# EAGLE library part CONN_USB_3.0_20P (library GPLIB_CONN)
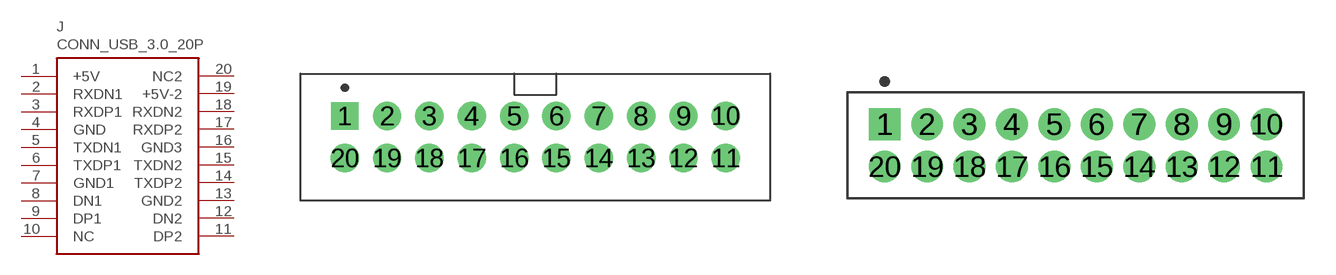
[diagram p56: symbol with the pads of CONN_20P_USB_2.54MMP_ST_DUAL_ROW; footprints CONN_20P_USB_2.54MMP_ST_DUAL_ROW, CONN_20P_USB_2.00MMP_ST_DUAL_ROW]

Designator prefix J

## CONN_USB_3.0_20P_ST_FEMALE  [CONN_20P_USB_2.54MMP_ST_DUAL_ROW]
1  +5V  pwr
2  RXDN1
3  RXDP1
4  GND  pwr
5  TXDN1
6  TXDP1
7  GND1  pwr
8  DN1
9  DP1
10  NC  nc
11  DP2
12  DN2
13  GND2  pwr
14  TXDP2
15  TXDN2
16  GND3  pwr
17  RXDP2
18  RXDN2
19  +5V-2  pwr
20  NC2  nc

## CONN_USB_3.0_20P_ST_2.00MMP_FEMALE  [CONN_20P_USB_2.00MMP_ST_DUAL_ROW]
Pads as for CONN_20P_USB_2.54MMP_ST_DUAL_ROW

## Footprint CONN_20P_USB_2.54MMP_ST_DUAL_ROW (pad centres in mm)
Double-row, 20-pin Receptacle Header (Female) Straight, 2.54 mm (0.10 in) row pitch, 2.54 mm (0.10 in) col pitch
drill 1.105 square: 1 -11.43,1.27
drill 1.105 pad 1.705: 2 -8.89,1.27; 3 -6.35,1.27; 4 -3.81,1.27; 5 -1.27,1.27; 6 1.27,1.27; 7 3.81,1.27; 8 6.35,1.27; 9 8.89,1.27; 10 11.43,1.27; 11 11.43,-1.27; 12 8.89,-1.27; 13 6.35,-1.27; 14 3.81,-1.27; 15 1.27,-1.27; 16 -1.27,-1.27; 17 -3.81,-1.27; 18 -6.35,-1.27; 19 -8.89,-1.27; 20 -11.43,-1.27

## Footprint CONN_20P_USB_2.00MMP_ST_DUAL_ROW (pad centres in mm)
Double-row, 20-pin Receptacle Header (Female) Straight, 2.54 mm (0.10 in) row pitch, 2.54 mm (0.10 in) col pitch
drill 0.9 pad 1.5 square: 1 -9,1
drill 0.9 pad 1.5: 2 -7,1; 3 -5,1; 4 -3,1; 5 -1,1; 6 1,1; 7 3,1; 8 5,1; 9 7,1; 10 9,1; 11 9,-1; 12 7,-1; 13 5,-1; 14 3,-1; 15 1,-1; 16 -1,-1; 17 -3,-1; 18 -5,-1; 19 -7,-1; 20 -9,-1